# Altium footprint library Capacitors_Ceramic_SMD.PcbLib: 24 footprints (part 1 of 2)
Each footprint in its own frame and in the unit in brackets; x right, y up, seen from the top. Pads: shape width x height; smd on the part's side, far side on the other; paste and mask are expansions set on the pad; w line width, h text height; cw(c..) or ccw(c..) is an arc to the next point about the centre after c.
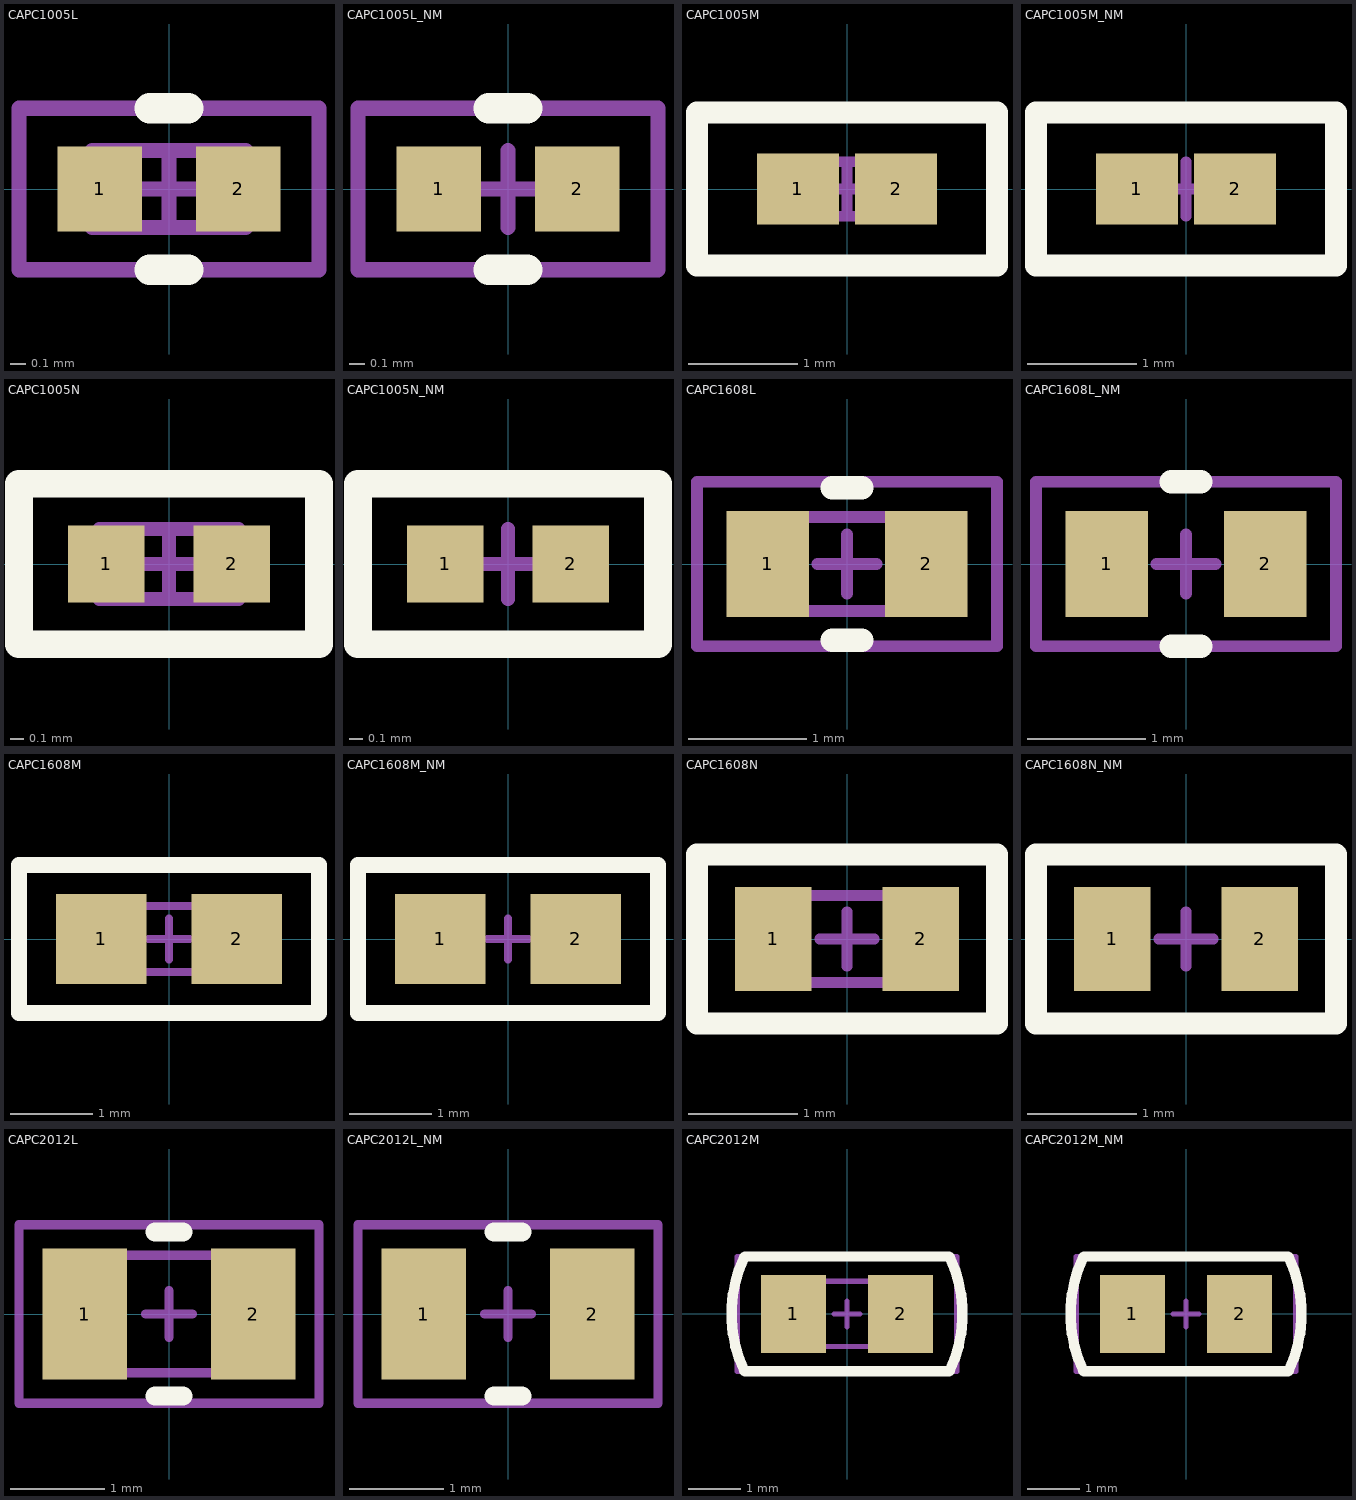
[diagram p0: the footprints below, top view; thin cyan lines are the x and y axes]

## CAPC1005L [mm] "Chip Capacitor, Body 1.0x0.5mm, IPC High Density"
height 0.55
pads (2):
  rect 0.55x0.55 smd: 1(-0.45,0) 2(0.45,0)
Top Overlay:
  lines w0.2: -0.125,-0.525 0.125,-0.525 ; -0.125,0.525 0.125,0.525
Top Package:
  lines w0.1: -0.3,-0.25 -0.3,0.25 ; 0.3,-0.25 0.3,0.25 ; -0.5,-0.25 -0.5,0.25 0.5,0.25 0.5,-0.25 -0.5,-0.25
Top Border:
  lines w0.1: -0.25,0 0.25,0 ; 0,-0.25 0,0.25 ; -0.975,-0.525 0.975,-0.525 0.975,0.525 -0.975,0.525 -0.975,-0.525
3D body "CAPC1005.step": height 0.51, standoff 0, extent -0.508,-0.254 0.508,0.254

## CAPC1005L_NM [mm] "Chip Capacitor, Body 1.0x0.5mm, IPC High Density"
height 0.55
pads (2):
  rect 0.55x0.55 smd: 1(-0.45,0) 2(0.45,0)
Top Overlay:
  lines w0.2: -0.125,-0.525 0.125,-0.525 ; -0.125,0.525 0.125,0.525
Top Border:
  lines w0.1: -0.25,0 0.25,0 ; 0,-0.25 0,0.25 ; -0.975,-0.525 -0.975,0.525 0.975,0.525 0.975,-0.525 -0.975,-0.525

## CAPC1005M [mm] "Chip Capacitor, Body 1.0x0.5mm, IPC High Density"
height 0.55
pads (2):
  rect 0.75x0.65 smd: 1(-0.45,0) 2(0.45,0)
Top Overlay:
  lines w0.2: -1.375,-0.7 -1.375,0.7 1.375,0.7 1.375,-0.7 -1.375,-0.7
Top Package:
  lines w0.1: -0.3,-0.25 -0.3,0.25 ; 0.3,-0.25 0.3,0.25 ; -0.5,-0.25 -0.5,0.25 0.5,0.25 0.5,-0.25 -0.5,-0.25
Top Border:
  lines w0.1: -0.25,0 0.25,0 ; 0,-0.25 0,0.25 ; -1.375,-0.7 -1.375,0.675 1.375,0.675 1.375,-0.7 -1.375,-0.7
3D body "CAPC1005.step": height 0.51, standoff 0, extent -0.508,-0.254 0.508,0.254

## CAPC1005M_NM [mm] "Chip Capacitor, Body 1.0x0.5mm, IPC High Density"
height 0.55
pads (2):
  rect 0.75x0.65 smd: 1(-0.45,0) 2(0.45,0)
Top Overlay:
  lines w0.2: -1.375,-0.7 1.375,-0.7 1.375,0.7 -1.375,0.7 -1.375,-0.7
Top Border:
  lines w0.1: -0.25,0 0.25,0 ; 0,-0.25 0,0.25 ; -1.375,-0.7 -1.375,0.675 1.375,0.675 1.375,-0.7 -1.375,-0.7

## CAPC1005N [mm] "Chip Capacitor, Body 1.0x0.5mm, IPC High Density"
height 0.55
pads (2):
  rect 0.55x0.55 smd: 1(-0.45,0) 2(0.45,0)
Top Overlay:
  lines w0.2: -1.075,-0.575 1.075,-0.575 1.075,0.575 -1.075,0.575 -1.075,-0.575
Top Package:
  lines w0.1: -0.3,-0.25 -0.3,0.25 ; 0.3,-0.25 0.3,0.25 ; -0.5,-0.25 0.5,-0.25 0.5,0.25 -0.5,0.25 -0.5,-0.25
Top Border:
  lines w0.1: -0.25,0 0.25,0 ; 0,-0.25 0,0.25 ; -1.075,-0.575 -1.075,0.575 1.075,0.575 1.075,-0.575 -1.075,-0.575
3D body "CAPC1005.step": height 0.51, standoff 0, extent -0.508,-0.254 0.508,0.254

## CAPC1005N_NM [mm] "Chip Capacitor, Body 1.0x0.5mm, IPC High Density"
height 0.55
pads (2):
  rect 0.55x0.55 smd: 1(-0.45,0) 2(0.45,0)
Top Overlay:
  lines w0.2: -1.075,-0.575 1.075,-0.575 1.075,0.575 -1.075,0.575 -1.075,-0.575
Top Border:
  lines w0.1: -0.25,0 0.25,0 ; 0,-0.25 0,0.25 ; -1.075,-0.575 1.075,-0.575 1.075,0.575 -1.075,0.575 -1.075,-0.575

## CAPC1608L [mm] "Chip Capacitor, Body 1.6x0.8mm, IPC High Density"
height 0.85
pads (2):
  rect 0.7x0.9 smd: 1(-0.675,0) 2(0.675,0)
Top Overlay:
  lines w0.2: -0.125,-0.65 0.125,-0.65 ; -0.125,0.65 0.125,0.65
Top Package:
  lines w0.1: -0.5,-0.4 -0.5,0.4 ; 0.5,-0.4 0.5,0.4 ; -0.8,-0.4 -0.8,0.4 0.8,0.4 0.8,-0.4 -0.8,-0.4
Top Border:
  lines w0.1: -0.25,0 0.25,0 ; 0,-0.25 0,0.25 ; -1.275,-0.7 -1.275,0.7 1.275,0.7 1.275,-0.7 -1.275,-0.7
3D body "CAPC1608.step": height 0.57, standoff 0, extent -0.8,-0.41 0.8,0.41

## CAPC1608L_NM [mm] "Chip Capacitor, Body 1.6x0.8mm, IPC High Density"
height 0.85
pads (2):
  rect 0.7x0.9 smd: 1(-0.675,0) 2(0.675,0)
Top Overlay:
  lines w0.2: -0.125,-0.7 0.125,-0.7 ; -0.125,0.7 0.125,0.7
Top Border:
  lines w0.1: -0.25,0 0.25,0 ; 0,-0.25 0,0.25 ; -1.275,-0.7 -1.275,0.7 1.275,0.7 1.275,-0.7 -1.275,-0.7

## CAPC1608M [mm] "Chip Capacitor, Body 1.6x0.8mm, IPC High Density"
height 0.85
pads (2):
  rect 1.1x1.1 smd: 1(-0.825,0) 2(0.825,0)
Top Overlay:
  lines w0.2: -1.825,-0.9 -1.825,0.9 1.825,0.9 1.825,-0.9 -1.825,-0.9
Top Package:
  lines w0.1: -0.5,-0.4 -0.5,0.4 ; 0.5,-0.4 0.5,0.4 ; -0.8,-0.4 0.8,-0.4 0.8,0.4 -0.8,0.4 -0.8,-0.4
Top Border:
  lines w0.1: -0.25,0 0.25,0 ; 0,-0.25 0,0.25 ; -1.825,-0.9 1.825,-0.9 1.825,0.9 -1.825,0.9 -1.825,-0.9
3D body "CAPC1608.step": height 0.57, standoff 0, extent -0.8,-0.41 0.8,0.41

## CAPC1608M_NM [mm] "Chip Capacitor, Body 1.6x0.8mm, IPC High Density"
height 0.85
pads (2):
  rect 1.1x1.1 smd: 1(-0.825,0) 2(0.825,0)
Top Overlay:
  lines w0.2: -1.825,-0.9 1.825,-0.9 1.825,0.9 -1.825,0.9 -1.825,-0.9
Top Border:
  lines w0.1: -0.25,0 0.25,0 ; 0,-0.25 0,0.25 ; -1.825,-0.9 1.825,-0.9 1.825,0.9 -1.825,0.9 -1.825,-0.9

## CAPC1608N [mm] "Chip Capacitor, Body 1.6x0.8mm, IPC High Density"
height 0.85
pads (2):
  rect 0.7x0.95 smd: 1(-0.675,0) 2(0.675,0)
Top Overlay:
  lines w0.2: -1.375,-0.775 -1.375,0.775 1.375,0.775 1.375,-0.775 -1.375,-0.775
Top Package:
  lines w0.1: -0.5,-0.4 -0.5,0.4 ; 0.5,-0.4 0.5,0.4 ; -0.8,-0.4 -0.8,0.4 0.8,0.4 0.8,-0.4 -0.8,-0.4
Top Border:
  lines w0.1: -1.375,-0.775 1.375,-0.775 ; -1.375,-0.775 -1.375,0.775 ; -1.375,-0.775 1.375,-0.775 ; -1.375,-0.775 -1.375,0.775 ; -1.375,0.775 1.375,0.775 ; -1.375,0.775 1.375,0.775 ; 1.375,-0.775 1.375,0.775 ; 1.375,-0.775 1.375,0.775 ; -0.25,0 0.25,0 -0.25,0 ; 0,-0.25 0,0.25 0,-0.25
3D body "CAPC1608.step": height 0.57, standoff 0, extent -0.8,-0.41 0.8,0.41

## CAPC1608N_NM [mm] "Chip Capacitor, Body 1.6x0.8mm, IPC High Density"
height 0.85
pads (2):
  rect 0.7x0.95 smd: 1(-0.675,0) 2(0.675,0)
Top Overlay:
  lines w0.2: -1.375,-0.775 1.375,-0.775 1.375,0.775 -1.375,0.775 -1.375,-0.775
Top Border:
  lines w0.1: -0.25,0 0.25,0 ; 0,-0.25 0,0.25 ; -1.375,-0.775 -1.375,0.775 1.375,0.775 1.375,-0.775 -1.375,-0.775

## CAPC2012L [mm] "Chip Resistor, Body 2.0x1.2mm, IPC High Density"
height 1.45
pads (2):
  rect 0.9x1.4 smd: 1(-0.9,0) 2(0.9,0)
Top Overlay:
  lines w0.2: -0.15,-0.875 0.15,-0.875 ; -0.15,0.875 0.15,0.875
Top Package:
  lines w0.1: -0.625,-0.625 -0.625,0.625 ; 0.6,-0.625 0.6,0.625 ; -1,-0.625 -1,0.625 1,0.625 1,-0.625 -1,-0.625
Top Border:
  lines w0.1: -0.25,0 0.25,0 ; 0,-0.25 0,0.25 ; -1.6,-0.95 1.6,-0.95 1.6,0.95 -1.6,0.95 -1.6,-0.95
3D body "CAPC2012.step": height 0.57, standoff 0, extent -1,-0.635 1,0.635

## CAPC2012L_NM [mm] "Chip Resistor, Body 2.0x1.2mm, IPC High Density"
height 1.45
pads (2):
  rect 0.9x1.4 smd: 1(-0.9,0) 2(0.9,0)
Top Overlay:
  lines w0.2: -0.15,-0.875 0.15,-0.875 ; -0.15,0.875 0.15,0.875
Top Border:
  lines w0.1: -0.25,0 0.25,0 ; 0,-0.25 0,0.25 ; -1.6,-0.95 -1.6,0.95 1.6,0.95 1.6,-0.95 -1.6,-0.95

## CAPC2012M [mm] "Chip Resistor, Body 2.0x1.2mm, IPC High Density"
height 1.45
pads (2):
  rect 1.25x1.5 smd: 1(-1.025,0) 2(1.025,0)
Top Overlay:
  lines w0.2: -1.97,-1.084 cw(c0.33,-0.001) -1.969,1.084 ; -1.95,-1.1 1.95,-1.1 ; -1.95,1.1 1.95,1.1 ; 1.969,1.084 cw(c-0.33,-0.001) 1.97,-1.084
Top Package:
  lines w0.1: -0.625,-0.625 -0.625,0.625 ; 0.6,-0.625 0.6,0.625 ; -1,-0.625 1,-0.625 1,0.625 -1,0.625 -1,-0.625
Top Border:
  lines w0.1: -0.25,0 0.25,0 ; 0,-0.25 0,0.25 ; -2.1,-1.1 -2.1,1.1 2.1,1.1 2.1,-1.1 -2.1,-1.1
3D body "User Library-Res_Vishay_CRCW0805_2012.step": height 0.45, standoff 0, extent -1,-0.625 1,0.625
3D body "CAPC2012.step": height 0.57, standoff 0, extent -1,-0.635 1,0.635

## CAPC2012M_NM [mm] "Chip Resistor, Body 2.0x1.2mm, IPC High Density"
height 1.45
pads (2):
  rect 1.25x1.5 smd: 1(-1.025,0) 2(1.025,0)
Top Overlay:
  lines w0.2: -1.97,-1.084 cw(c0.33,-0.001) -1.969,1.084 ; -1.95,-1.1 1.95,-1.1 ; -1.95,1.1 1.95,1.1 ; 1.969,1.084 cw(c-0.33,-0.001) 1.97,-1.084
Top Border:
  lines w0.1: -0.25,0 0.25,0 ; 0,-0.25 0,0.25 ; -2.1,-1.1 -2.1,1.1 2.1,1.1 2.1,-1.1 -2.1,-1.1